# Altium footprint library Passive.PcbLib: 235 footprints (part 5 of 15)
Each footprint in its own frame and in the unit in brackets; x right, y up, seen from the top. Pads: shape width x height; smd on the part's side, far side on the other; paste and mask are expansions set on the pad; w line width, h text height; cw(c..) or ccw(c..) is an arc to the next point about the centre after c.
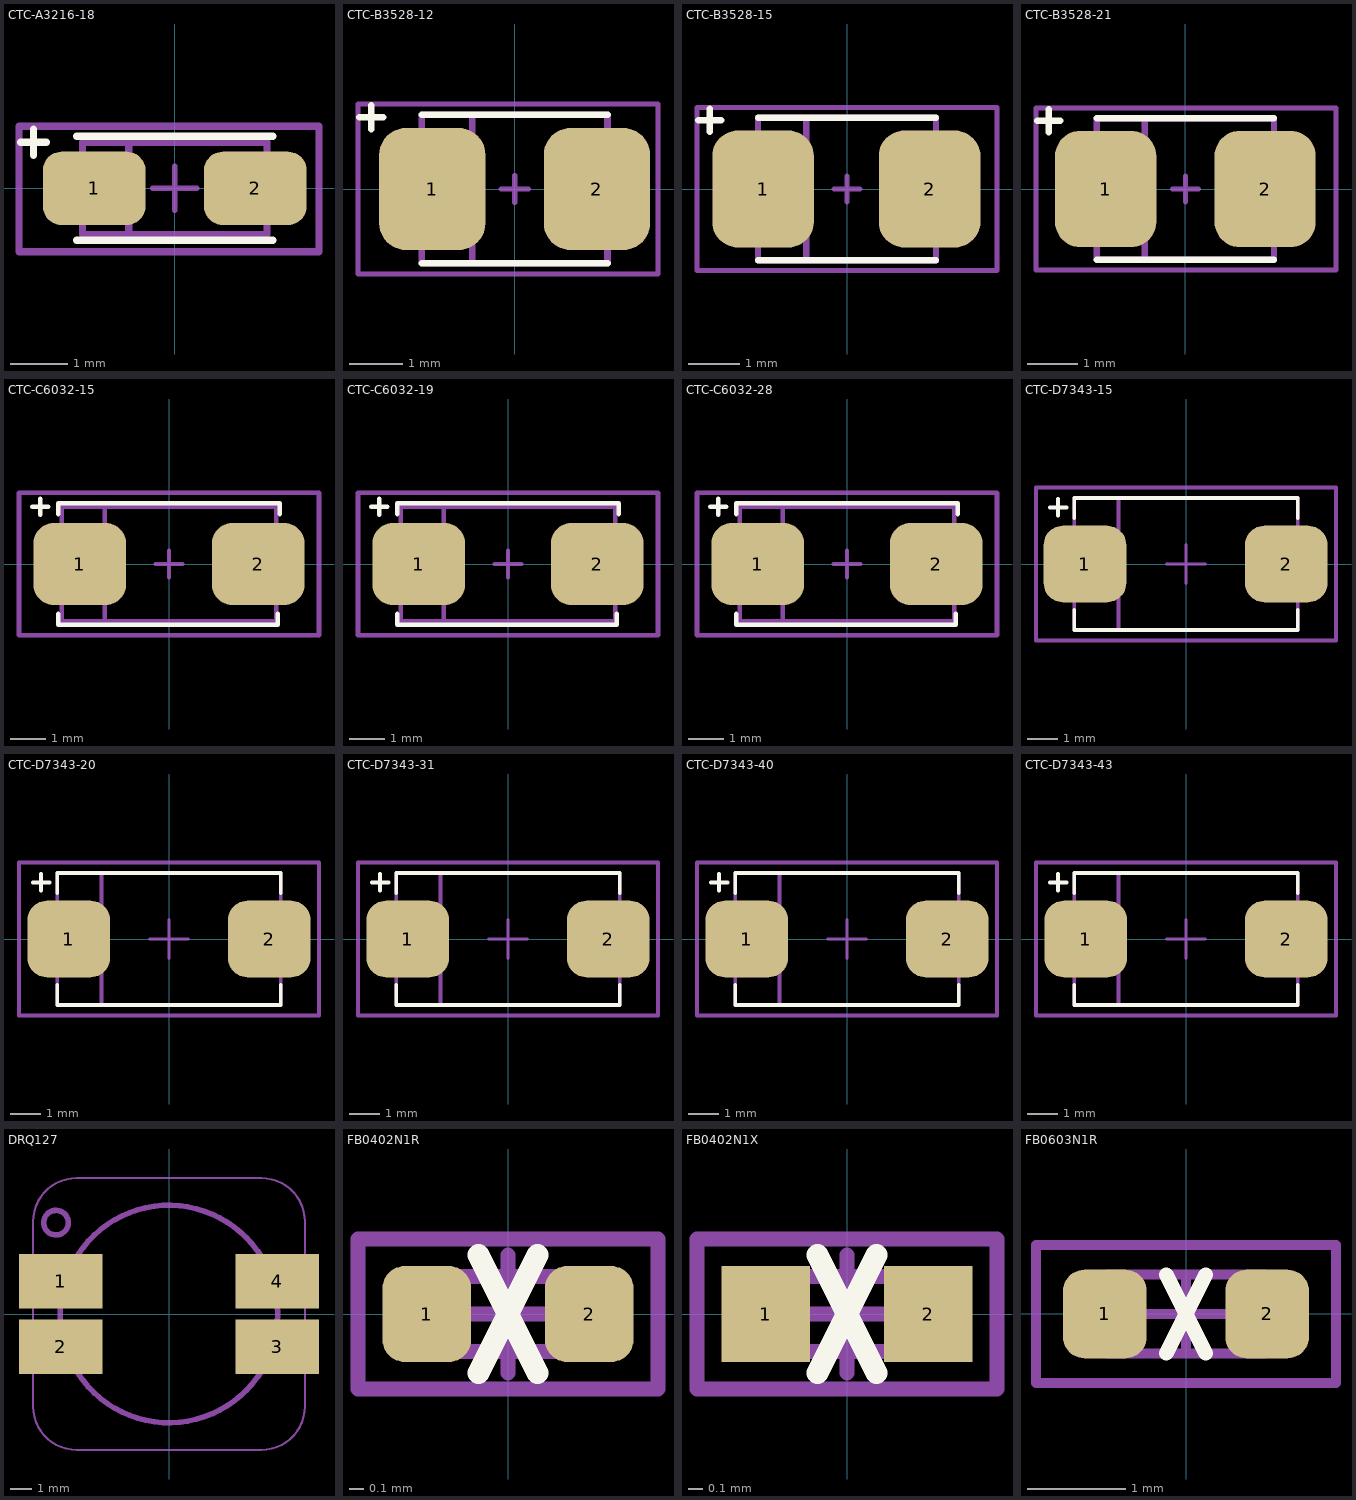
[diagram p4: the footprints below, top view; thin cyan lines are the x and y axes]

## CTC-A3216-18 [mil] "Capacitor tantal chip A - 3216, H=1.6mm"
height 62.99
pads (2):
  rrect50% 70x50 smd: 1(-55,0) 2(55,0)
Top Overlay:
  lines w5: -105.31,31.5 -87.6,31.5 ; -96.46,22.64 -96.46,40.35 ; -66.93,-35.43 66.93,-35.43 ; -66.93,35.43 66.93,35.43
Mechanical 13:
  lines w5: -57.09,0 -37.4,0 ; -47.24,-9.84 -47.24,9.84 ; -31.5,-31.5 -31.5,31.5 ; -62.99,-31.5 -62.99,31.5 62.99,31.5 62.99,-31.5 -62.99,-31.5
Mechanical 15:
  lines w4: -15,0 15,0 ; 0,-15 0,15
  lines w5: -106.3,-43.31 98.43,-43.31 98.43,42.32 -106.3,42.32 -106.3,-43.31
3D body: height 63.39, standoff 62.99, extent -62.99,-31.5 -31.5,31.5
3D body: height 62.99, standoff 0, extent -62.99,-31.5 62.99,31.5
3D body: height 39.37, standoff 0, extent -67.91,-19.68 -62.99,19.68
3D body: height 39.37, standoff 0, extent 62.99,-19.68 67.91,19.68

## CTC-B3528-12 [mm] "Capacitor Tantal Chip B - 3528, H=1.2mm"
height 1.2
pads (2):
  rrect50% 2x2.3 smd: 1(-1.55,0) 2(1.55,0)
Top Overlay:
  lines w0.127: -2.925,1.35 -2.475,1.35 ; -2.7,1.125 -2.7,1.575 ; -1.75,-1.4 1.75,-1.4 ; -1.75,1.4 1.75,1.4
Mechanical 13:
  lines w0.127: -1.525,0 -1.025,0 ; -1.275,-0.25 -1.275,0.25 ; -0.8,-1.4 -0.8,1.4 ; -1.75,-1.4 -1.75,1.4 1.75,1.4 1.75,-1.4 -1.75,-1.4
Mechanical 15:
  lines w0.1: -0.254,0 0.254,0 ; 0,-0.254 0,0.254
  lines w0.102: -2.95,-1.6 -2.95,1.6 2.7,1.6 2.7,-1.6 -2.95,-1.6
3D body: height 1.21, standoff 1.2, extent -1.75,-1.4 -0.8,1.4
3D body: height 1.2, standoff 0, extent -1.75,-1.4 1.75,1.4
3D body: height 0.65, standoff 0, extent -1.925,-1 -1.75,1
3D body: height 0.65, standoff 0, extent 1.75,-1 1.925,1

## CTC-B3528-15 [mm] "Capacitor Tantal Chip B - 3528, H=1.5mm"
height 1.5
pads (2):
  rrect50% 2x2.3 smd: 1(-1.65,0) 2(1.625,0)
Top Overlay:
  lines w0.127: -2.925,1.35 -2.475,1.35 ; -2.7,1.125 -2.7,1.575 ; -1.75,-1.4 1.75,-1.4 ; -1.75,1.4 1.75,1.4
Mechanical 13:
  lines w0.127: -1.525,0 -1.025,0 ; -1.275,-0.25 -1.275,0.25 ; -0.8,-1.4 -0.8,1.4 ; -1.75,-1.4 1.75,-1.4 1.75,1.4 -1.75,1.4 -1.75,-1.4
Mechanical 15:
  lines w0.1: -0.254,0 0.254,0 ; 0,-0.254 0,0.254
  lines w0.102: -2.95,-1.6 2.95,-1.6 2.95,1.6 -2.95,1.6 -2.95,-1.6
3D body: height 0.8, standoff 0, extent 1.75,-1 1.925,1
3D body: height 0.8, standoff 0, extent -1.925,-1 -1.75,1
3D body: height 1.5, standoff 0, extent -1.75,-1.4 1.75,1.4
3D body: height 1.51, standoff 1.5, extent -1.75,-1.4 -0.8,1.4

## CTC-B3528-21 [mm] "Capacitor Tantal Chip B - 3528, H=1.9mm"
height 1.9
pads (2):
  rrect50% 2x2.3 smd: 1(-1.575,0) 2(1.575,0)
Top Overlay:
  lines w0.127: -2.925,1.35 -2.475,1.35 ; -2.7,1.125 -2.7,1.575 ; -1.75,-1.4 1.75,-1.4 ; -1.75,1.4 1.75,1.4
Mechanical 13:
  lines w0.127: -1.525,0 -1.025,0 ; -1.275,-0.25 -1.275,0.25 ; -0.8,-1.4 -0.8,1.4 ; -1.75,-1.4 1.75,-1.4 1.75,1.4 -1.75,1.4 -1.75,-1.4
Mechanical 15:
  lines w0.1: -0.254,0 0.254,0 ; 0,-0.254 0,0.254
  lines w0.102: -2.95,-1.6 2.975,-1.6 2.975,1.6 -2.95,1.6 -2.95,-1.6
3D body: height 1, standoff 0, extent -1.925,-1 -1.75,1
3D body: height 1, standoff 0, extent 1.75,-1 1.925,1
3D body: height 1.9, standoff 0, extent -1.75,-1.4 1.75,1.4
3D body: height 1.91, standoff 1.9, extent -1.75,-1.4 -0.8,1.4

## CTC-C6032-15 [mm] "Capacitor tantal chip C - 6032, H=1.5mm"
height 1.5
pads (2):
  rrect50% 2.6x2.3 smd: 1(-2.5,0) 2(2.5,0)
Top Overlay:
  lines w0.127: -3.825,1.6 -3.375,1.6 ; -3.6,1.375 -3.6,1.825 ; -3.1,-1.4 -3.1,-1.7 3.048,-1.7 3.048,-1.397 ; -3.1,1.4 -3.1,1.7 3.1,1.7 3.1,1.4
Mechanical 13:
  lines w0.127: -2.65,0 -2.15,0 ; -2.4,-0.25 -2.4,0.25 ; -1.8,-1.6 -1.8,1.6 ; -3,-1.6 3,-1.6 3,1.6 -3,1.6 -3,-1.6
Mechanical 15:
  lines w0.102: -0.381,0 0.381,0 ; 0,-0.381 0,0.381
  lines w0.127: -4.2,-2 -4.2,2 4.2,2 4.2,-2 -4.2,-2
3D body: height 0.8, standoff 0, extent 3,-1 3.175,1
3D body: height 0.8, standoff 0, extent -3.175,-1 -3,1
3D body: height 1.51, standoff 1.5, extent -3,-1.6 -1.8,1.6
3D body: height 1.5, standoff 0, extent -3,-1.6 3,1.6

## CTC-C6032-19 [mm] "Capacitor tantal chip C - 6032, H=1.9mm"
height 1.9
pads (2):
  rrect50% 2.6x2.3 smd: 1(-2.5,0) 2(2.5,0)
Top Overlay:
  lines w0.127: -3.825,1.6 -3.375,1.6 ; -3.6,1.375 -3.6,1.825 ; -3.1,-1.4 -3.1,-1.7 3.048,-1.7 3.048,-1.397 ; -3.1,1.4 -3.1,1.7 3.1,1.7 3.1,1.4
Mechanical 13:
  lines w0.127: -2.65,0 -2.15,0 ; -2.4,-0.25 -2.4,0.25 ; -1.8,-1.6 -1.8,1.6 ; -3,-1.6 -3,1.6 3,1.6 3,-1.6 -3,-1.6
Mechanical 15:
  lines w0.102: -0.381,0 0.381,0 ; 0,-0.381 0,0.381
  lines w0.127: -4.2,-2 4.2,-2 4.2,2 -4.2,2 -4.2,-2
3D body: height 1, standoff 0, extent 3,-1 3.175,1
3D body: height 1, standoff 0, extent -3.175,-1 -3,1
3D body: height 1.9, standoff 0, extent -3,-1.6 3,1.6
3D body: height 1.91, standoff 1.9, extent -3,-1.6 -1.8,1.6

## CTC-C6032-28 [mm] "Capacitor tantal chip C - 6032, H=2.8mm"
height 2.8
pads (2):
  rrect50% 2.6x2.3 smd: 1(-2.5,0) 2(2.5,0)
Top Overlay:
  lines w0.127: -3.825,1.6 -3.375,1.6 ; -3.6,1.375 -3.6,1.825 ; -3.1,-1.4 -3.1,-1.7 3.048,-1.7 3.048,-1.397 ; -3.1,1.4 -3.1,1.7 3.1,1.7 3.1,1.4
Mechanical 13:
  lines w0.127: -2.65,0 -2.15,0 ; -2.4,-0.25 -2.4,0.25 ; -1.8,-1.6 -1.8,1.6 ; -3,-1.6 -3,1.6 3,1.6 3,-1.6 -3,-1.6
Mechanical 15:
  lines w0.102: -0.381,0 0.381,0 ; 0,-0.381 0,0.381
  lines w0.127: -4.2,-2 4.2,-2 4.2,2 -4.2,2 -4.2,-2
3D body: height 1.5, standoff 0, extent 3,-1 3.175,1
3D body: height 1.5, standoff 0, extent -3.175,-1 -3,1
3D body: height 2.8, standoff 0, extent -3,-1.6 3,1.6
3D body: height 2.81, standoff 2.8, extent -3,-1.6 -1.8,1.6

## CTC-D7343-15 [mm] "Capacitor Tantal Chip D - 7343, H=1.5mm"
height 1.5
pads (2):
  rrect50% 2.7x2.5 smd: 1(-3.3,0) 2(3.275,0)
Top Overlay:
  lines w0.127: -4.45,1.85 -3.9,1.85 ; -4.175,1.575 -4.175,2.125 ; -3.65,-1.5 -3.65,-2.15 3.65,-2.15 3.65,-1.5 ; -3.65,1.5 -3.65,2.15 3.65,2.15 3.65,1.5
Mechanical 13:
  lines w0.127: -3.25,0 -2.65,0 ; -2.95,-0.3 -2.95,0.3 ; -2.2,-2.15 -2.2,2.15 ; -3.65,-2.15 -3.65,2.15 3.65,2.15 3.65,-2.15 -3.65,-2.15
Mechanical 15:
  lines w0.102: -0.635,0 0.635,0 ; 0,-0.635 0,0.635
  lines w0.127: -4.9,-2.5 4.9,-2.5 4.9,2.5 -4.9,2.5 -4.9,-2.5
3D body: height 1.5, standoff 0, extent -3.65,-2.15 3.65,2.15
3D body: height 1.51, standoff 1.5, extent -3.65,-2.15 -2.2,2.15
3D body: height 0.8, standoff 0, extent -4,-1.1 -3.65,1.1
3D body: height 0.8, standoff 0, extent 3.65,-1.1 4,1.1

## CTC-D7343-20 [mm] "Capacitor Tantal Chip D - 7343, H=1.9mm"
height 1.9
pads (2):
  rrect50% 2.7x2.5 smd: 1(-3.275,0) 2(3.275,0)
Top Overlay:
  lines w0.127: -4.45,1.85 -3.9,1.85 ; -4.175,1.575 -4.175,2.125 ; -3.65,-1.5 -3.65,-2.15 3.65,-2.15 3.65,-1.5 ; -3.65,1.5 -3.65,2.15 3.65,2.15 3.65,1.5
Mechanical 13:
  lines w0.127: -3.25,0 -2.65,0 ; -2.95,-0.3 -2.95,0.3 ; -2.2,-2.15 -2.2,2.15 ; -3.65,-2.15 -3.65,2.15 3.65,2.15 3.65,-2.15 -3.65,-2.15
Mechanical 15:
  lines w0.102: -0.635,0 0.635,0 ; 0,-0.635 0,0.635
  lines w0.127: -4.9,-2.5 4.9,-2.5 4.9,2.5 -4.9,2.5 -4.9,-2.5
3D body: height 1.1, standoff 0, extent 3.65,-1.1 4,1.1
3D body: height 1.1, standoff 0, extent -4,-1.1 -3.65,1.1
3D body: height 1.9, standoff 0, extent -3.65,-2.15 3.65,2.15
3D body: height 1.91, standoff 1.9, extent -3.65,-2.15 -2.2,2.15

## CTC-D7343-31 [mm] "Capacitor Tantal Chip D - 7343, H=2.8mm"
height 2.8
pads (2):
  rrect50% 2.7x2.5 smd: 1(-3.275,0) 2(3.275,0)
Top Overlay:
  lines w0.127: -4.45,1.85 -3.9,1.85 ; -4.175,1.575 -4.175,2.125 ; -3.65,-1.5 -3.65,-2.15 3.65,-2.15 3.65,-1.5 ; -3.65,1.5 -3.65,2.15 3.65,2.15 3.65,1.5
Mechanical 13:
  lines w0.127: -3.25,0 -2.65,0 ; -2.95,-0.3 -2.95,0.3 ; -2.2,-2.15 -2.2,2.15 ; -3.65,-2.15 -3.65,2.15 3.65,2.15 3.65,-2.15 -3.65,-2.15
Mechanical 15:
  lines w0.102: -0.635,0 0.635,0 ; 0,-0.635 0,0.635
  lines w0.127: -4.9,-2.5 4.9,-2.5 4.9,2.5 -4.9,2.5 -4.9,-2.5
3D body: height 2.8, standoff 0, extent -3.65,-2.15 3.65,2.15
3D body: height 2.81, standoff 2.8, extent -3.65,-2.15 -2.2,2.15
3D body: height 1.6, standoff 0, extent -4,-1.1 -3.65,1.1
3D body: height 1.6, standoff 0, extent 3.65,-1.1 4,1.1

## CTC-D7343-40 [mm] "Capacitor Tantal Chip D - 7343, H=4.0mm"
height 4
pads (2):
  rrect50% 2.7x2.5 smd: 1(-3.275,0) 2(3.275,0)
Top Overlay:
  lines w0.127: -4.45,1.85 -3.9,1.85 ; -4.175,1.575 -4.175,2.125 ; -3.65,-1.5 -3.65,-2.15 3.65,-2.15 3.65,-1.5 ; -3.65,1.5 -3.65,2.15 3.65,2.15 3.65,1.5
Mechanical 13:
  lines w0.127: -3.25,0 -2.65,0 ; -2.95,-0.3 -2.95,0.3 ; -2.2,-2.15 -2.2,2.15 ; -3.65,-2.15 -3.65,2.15 3.65,2.15 3.65,-2.15 -3.65,-2.15
Mechanical 15:
  lines w0.102: -0.635,0 0.635,0 ; 0,-0.635 0,0.635
  lines w0.127: -4.9,-2.5 4.9,-2.5 4.9,2.5 -4.9,2.5 -4.9,-2.5
3D body: height 4, standoff 0, extent -3.65,-2.15 3.65,2.15
3D body: height 4.01, standoff 4, extent -3.65,-2.15 -2.2,2.15
3D body: height 2.1, standoff 0, extent -4,-1.1 -3.65,1.1
3D body: height 2.1, standoff 0, extent 3.65,-1.1 4,1.1

## CTC-D7343-43 [mm] "Capacitor Tantal Chip D - 7343, H=4.3mm"
height 4.3
pads (2):
  rrect50% 2.7x2.5 smd: 1(-3.275,0) 2(3.275,0)
Top Overlay:
  lines w0.127: -4.45,1.85 -3.9,1.85 ; -4.175,1.575 -4.175,2.125 ; -3.65,-1.5 -3.65,-2.15 3.65,-2.15 3.65,-1.5 ; -3.65,1.5 -3.65,2.15 3.65,2.15 3.65,1.5
Mechanical 13:
  lines w0.127: -3.25,0 -2.65,0 ; -2.95,-0.3 -2.95,0.3 ; -2.2,-2.15 -2.2,2.15 ; -3.65,-2.15 3.65,-2.15 3.65,2.15 -3.65,2.15 -3.65,-2.15
Mechanical 15:
  lines w0.102: -0.635,0 0.635,0 ; 0,-0.635 0,0.635
  lines w0.127: -4.9,-2.5 -4.9,2.5 4.9,2.5 4.9,-2.5 -4.9,-2.5
3D body: height 4.31, standoff 4.3, extent -3.65,-2.15 -2.2,2.15
3D body: height 4.3, standoff 0, extent -3.65,-2.15 3.65,2.15
3D body: height 2.3, standoff 0, extent -4,-1.1 -3.65,1.1
3D body: height 2.3, standoff 0, extent 3.65,-1.1 4,1.1

## DRQ127 [mm] "Power inductor 12.5x12.5x8mm"
height 8
pads (4):
  rect 3.85x2.5 smd: 1(-4.975,1.5) 2(-4.975,-1.5) 3(4.975,-1.5) 4(4.975,1.5)
Mechanical 13:
  circle w0.254: c-5.2,4.2 r0.566
  circle w0.254: c0,0 r5
  lines w0.1: -6.25,-4.25 ccw(c-4.25,-4.25) -4.25,-6.25 4.25,-6.25 ccw(c4.25,-4.25) 6.25,-4.25 6.25,4.25 ccw(c4.25,4.25) 4.25,6.25 -4.25,6.25 ccw(c-4.25,4.25) -6.25,4.25 -6.25,-4.25
3D body: height 7.81, standoff 7.8, extent -5.692,3.702 -4.696,4.7
3D body: height 8, standoff 7.8, extent -4.961,-4.99 5,4.99
3D body: height 7.8, standoff 0, extent -6.25,-6.25 6.25,6.25

## FB0402N1R [mm] "Chip Ferrite Bead, 2-Leads, Body 1,6x0,8mm, IPC Medium Density"
height 0.8
pads (2):
  rrect50% 0.6x0.65 smd: 1(-0.55,0) 2(0.55,0)
Top Overlay:
  lines w0.15: -0.2,-0.4 0.2,0.4 ; -0.2,0.4 0.2,-0.4
Mechanical 13:
  lines w0.1: -0.508,-0.254 0.508,-0.254 0.508,0.254 -0.508,0.254 -0.508,-0.254
Mechanical 15:
  lines w0.1: -0.4,0 0.4,0 ; 0,-0.4 0,0.4 ; -1.016,-0.508 1.016,-0.508 1.016,0.508 -1.016,0.508 -1.016,-0.508
3D body: height 0.5, standoff 0, extent 0.254,-0.254 0.508,0.254
3D body: height 0.5, standoff 0, extent -0.254,-0.254 0.254,0.254
3D body: height 0.5, standoff 0, extent -0.508,-0.254 -0.254,0.254

## FB0402N1X [mm] "Chip Ferrite Bead, 2-Leads, Body 1,6x0,8mm, IPC Medium Density"
height 0.8
pads (2):
  rect 0.6x0.65 smd: 1(-0.55,0) 2(0.55,0)
Top Overlay:
  lines w0.15: -0.2,-0.4 0.2,0.4 ; -0.2,0.4 0.2,-0.4
Mechanical 13:
  lines w0.1: -0.508,-0.254 0.508,-0.254 0.508,0.254 -0.508,0.254 -0.508,-0.254
Mechanical 15:
  lines w0.1: -0.4,0 0.4,0 ; 0,-0.4 0,0.4 ; -1.016,-0.508 1.016,-0.508 1.016,0.508 -1.016,0.508 -1.016,-0.508
3D body: height 0.5, standoff 0, extent 0.254,-0.254 0.508,0.254
3D body: height 0.5, standoff 0, extent -0.254,-0.254 0.254,0.254
3D body: height 0.5, standoff 0, extent -0.508,-0.254 -0.254,0.254

## FB0603N1R [mm] "Chip Ferrite Bead, 2-Leads, Body 1,6x0,8mm, IPC Medium Density"
height 0.8
pads (2):
  rrect50% 0.85x0.9 smd: 1(-0.825,0) 2(0.825,0)
Top Overlay:
  lines w0.15: -0.2,-0.4 0.2,0.4 ; -0.2,0.4 0.2,-0.4
Mechanical 13:
  lines w0.1: -0.8,-0.4 -0.8,0.4 0.8,0.4 0.8,-0.4 -0.8,-0.4
Mechanical 15:
  lines w0.1: -0.4,0 0.4,0 ; 0,-0.4 0,0.4 ; -1.525,-0.7 -1.525,0.7 1.525,0.7 1.525,-0.7 -1.525,-0.7
3D body: height 0.8, standoff 0, extent 0.4,-0.4 0.8,0.4
3D body: height 0.8, standoff 0, extent -0.8,-0.4 -0.4,0.4
3D body: height 0.8, standoff 0, extent -0.4,-0.4 0.4,0.4